# EAGLE library part 643280100305 (library WR-CIRC)
WR-CIRCM12 Screw Mating Panel Connector Angled 90° Female Metal M12 Kind Properties Gender Female Packaging Properties Packaging Tray Electrical Properties IR 2 A; 5 A Working Voltage 30 V; 60 V; 250 V Withstanding Voltage 650 V (AC); 1000 V (AC); 1400 V (AC) Contact Resistance Initial 10 mΩ RISO 100 MΩ General Information Durability 100 Mating cycles Ingress Protection Code IP68 Operating Temperature -40 up to +90 °C Material Properties nsulator Material PBT Insulator Flammability Rating UL94 V-0 Insulator Color Black Contact Material Copper Alloy Contact Plating Gold <https://www.we-online.com/components/media/o722386v209%20family-wr-circ-m12a-6432801003xx.jpg> Details see: www.we-online.com/en/components/products/WR-CIRCM12_PANEL_CONNECTOR_ANGLED_90_FEMALE_METAL_M12 Created by Ella 2023-11-30 2023 (C) Würth Elektronik
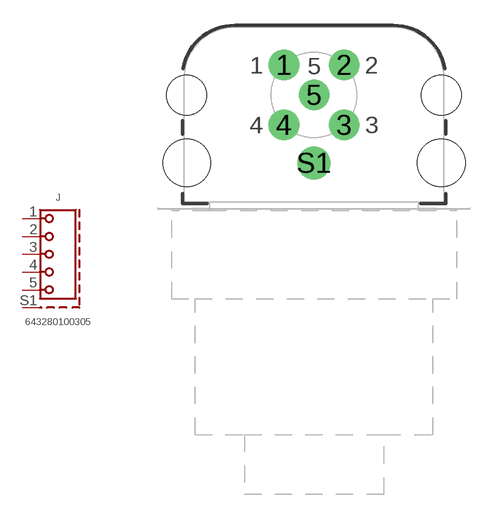
[diagram p11: symbol with the pads of 643280100305; footprint 643280100305]

Designator prefix J

## 643280100305 (DATASHEET-URL: https://www.we-online.com/redexpert/spec/643280100305?ae; GENDER: Female; MOUNT: THT; PART-NUMBER: 643280100305; POLARITY: 5; RATED-CURRENT: 5A; RISO: 100 MO; VALUE: 643280100305; WITHSTANDING-VOLTAGE: 1000V(AC); WORKING-VOLTAGE: 60V)  [643280100305]
1  1  pas
2  2  pas
3  3  pas
4  4  pas
5  5  pas
S1  SHIELD  pas

## Footprint 643280100305 (pad centres in mm)
WR-CIRCM12 Screw Mating Panel Connector Angled 90° Female Metal M12 THT, 5pins
drill 1.2: 1 -1.768,1.768; 2 1.768,1.768; 3 1.768,-1.768; 4 -1.768,-1.768; 5 0,0
drill 1.3: S1 0,-4
hole 2.35 at -7.5,0
hole 2.35 at 7.5,0
hole 2.8 at -7.5,-4
hole 2.8 at 7.5,-4